# Altium integrated library National Semiconductor MiscPower.IntLib: 1552 symbols (part 35 of 43)
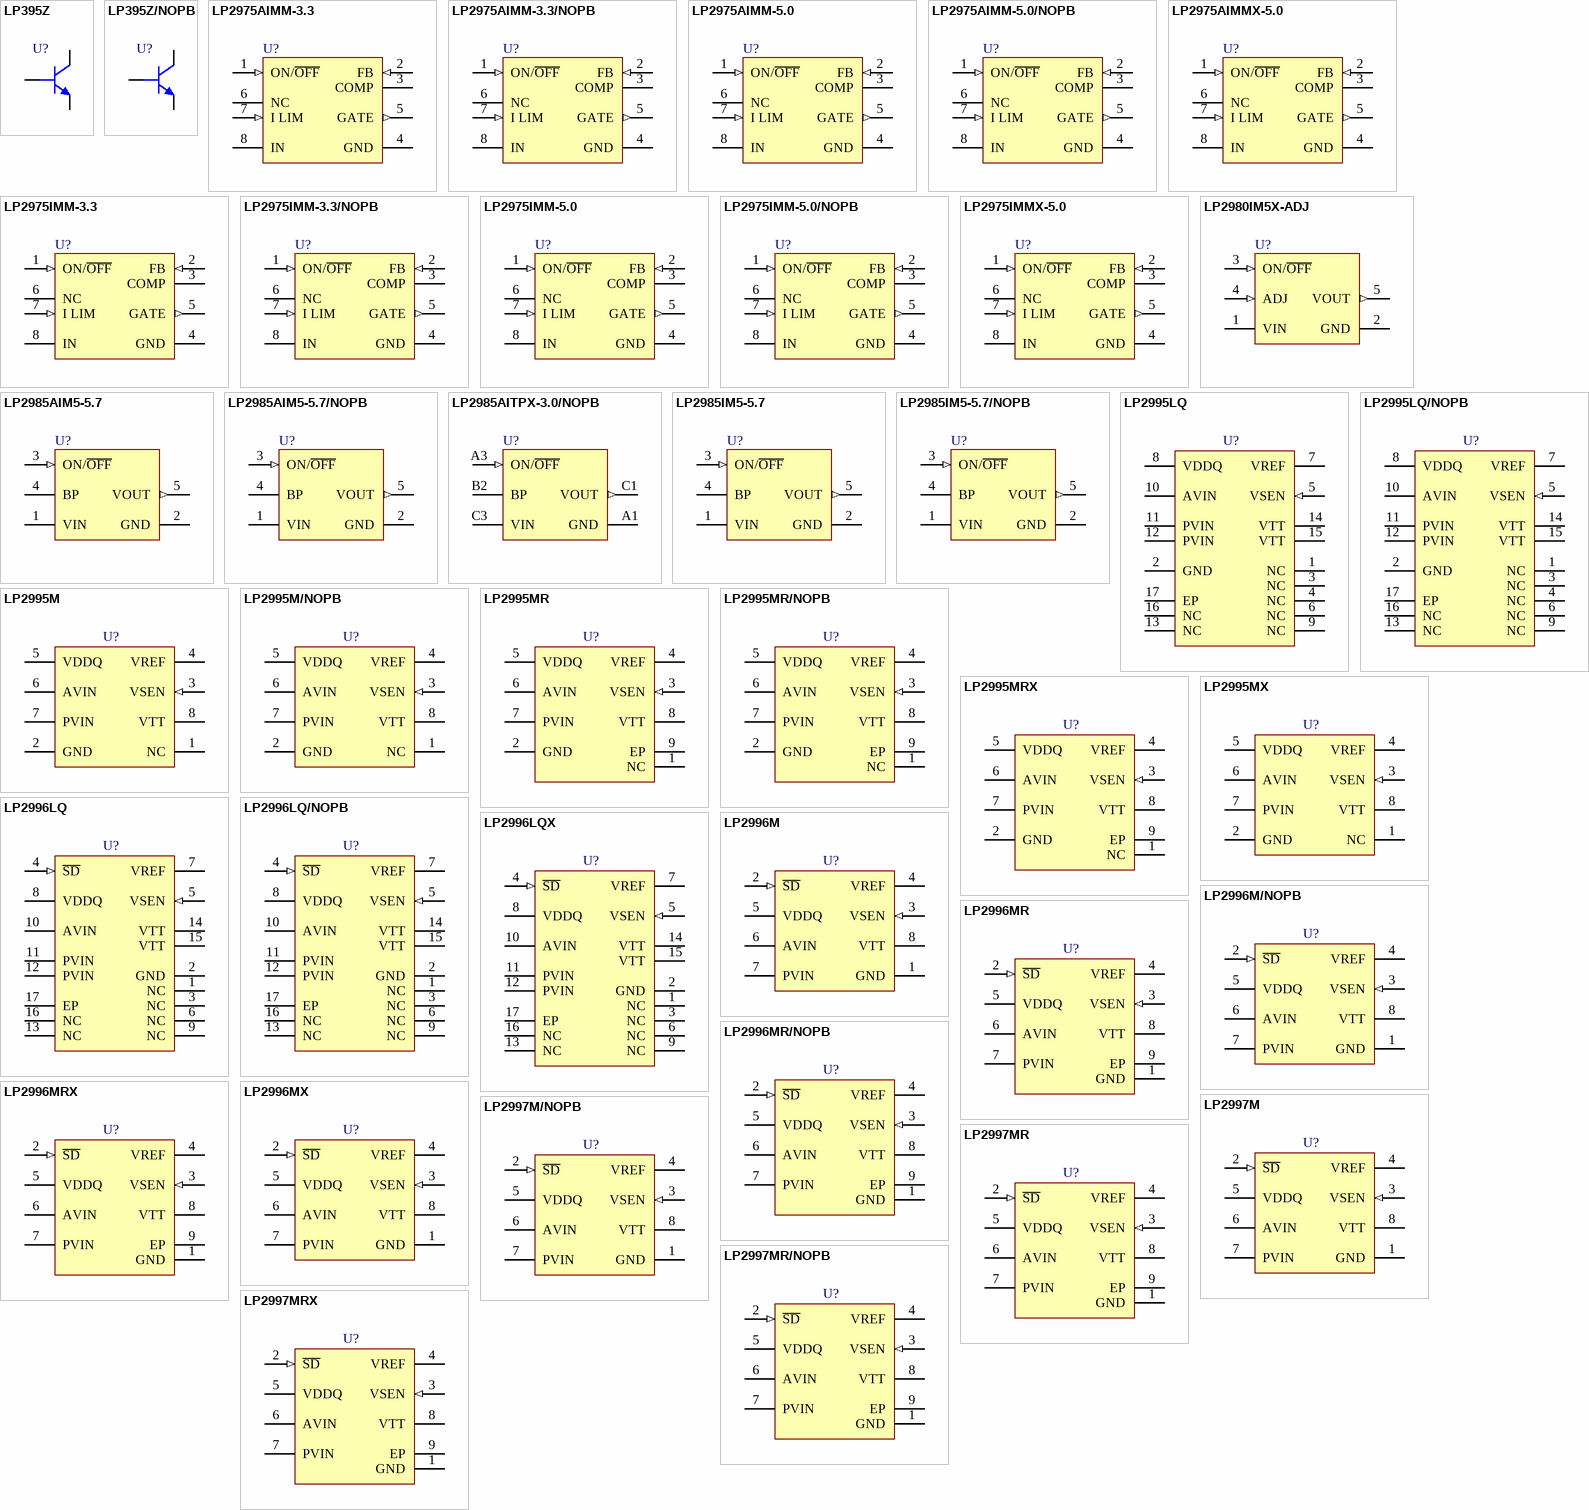
[diagram p91: symbols LP395Z to LP2997MRX]

## LP2996M/NOPB
designator U?
DDR Termination Regulator, 8-pin Narrow SOIC, Pb-Free; PartNumber: LP2996M/NOPB; Manufacturer: National Semiconductor; PackageTopMarking: NSZXTT*2996M; PowerWise: N; CompType: MiscPower; High-Reliability: Y; DatasheetVersion: Apr-2009; PackageVersion: revM, May-2009; PackageReference: M08A; PackageDescription: SOIC Narrow, 4.9 x 3.9 x 1.45mm, 8 Lead, 1.27mm Pitch; RoHS: Y; PinCount: 8; Code_JEDEC: MS-012-AA; Code_IPC: SOIC127P600-8; ComponentLink1Description: Manufacturer URL; ComponentLink1URL: http://www.national.com/; ComponentLink2Description: LP2996 Datasheet; ComponentLink2URL: http://www.national.com/ds/LP/LP2996.pdf; ComponentLink3Description: LP2996 Web Page; ComponentLink3URL: http://www.national.com/pf/LP/LP2996.html; ComponentLink4Description: M08A Package Page; ComponentLink4URL: http://www.national.com/packaging/folders/m08a.html
footprint M08A_N (SOIC, 8-Leads, Body 4.9x3.9mm, Pitch 1.27mm, IPC Medium Density)
footprint M08A_L (SOIC, 8-Leads, Body 4.9x3.9mm, Pitch 1.27mm, IPC High Density)
footprint M08A_M (SOIC, 8-Leads, Body 4.9x3.9mm, Pitch 1.27mm, IPC Low Density)
pins: 1 GND (power), 2 ~{SD} (in), 3 VSEN (in), 4 VREF, 5 VDDQ (power), 6 AVIN (power), 7 PVIN (power), 8 VTT (power)

## LP2996MR
designator U?
DDR Termination Regulator, 8-pin PSOP; PartNumber: LP2996MR; Manufacturer: National Semiconductor; PackageTopMarking: NSXYTT*LP2996; PowerWise: N; CompType: MiscPower; High-Reliability: Y; DatasheetVersion: Apr-2009; PackageVersion: revD, Dec-2007; PackageReference: MRA08A; PackageDescription: Molded, PSOP .193 x .154 x .058in, 8 Lead, .050in Pitch; RoHS: N; PinCount: 8; Code_JEDEC: MS-012-AA; ComponentLink1Description: Manufacturer URL; ComponentLink1URL: http://www.national.com/; ComponentLink2Description: LP2996 Datasheet; ComponentLink2URL: http://www.national.com/ds/LP/LP2996.pdf; ComponentLink3Description: LP2996 Web Page; ComponentLink3URL: http://www.national.com/pf/LP/LP2996.html; ComponentLink4Description: MRA08A Package Page; ComponentLink4URL: http://www.national.com/packaging/folders/mra08a.html
footprint MRA08A_N (SOIC, 8-Leads, Body 4.9x3.9mm, Pitch 1.27mm, Thermal Pad, IPC Medium Density)
footprint MRA08A_L (SOIC, 8-Leads, Body 4.9x3.9mm, Pitch 1.27mm, Thermal Pad, IPC High Density)
footprint MRA08A_M (SOIC, 8-Leads, Body 4.9x3.9mm, Pitch 1.27mm, Thermal Pad, IPC Low Density)
pins: 1 GND (power), 2 ~{SD} (in), 3 VSEN (in), 4 VREF, 5 VDDQ (power), 6 AVIN (power), 7 PVIN (power), 8 VTT (power), 9 EP (power)

## LP2996MR/NOPB
designator U?
DDR Termination Regulator, 8-pin PSOP, Pb-Free; PartNumber: LP2996MR/NOPB; Manufacturer: National Semiconductor; PackageTopMarking: NSXYTT*LP2996; PowerWise: N; CompType: MiscPower; High-Reliability: Y; DatasheetVersion: Apr-2009; PackageVersion: revD, Dec-2007; PackageReference: MRA08A; PackageDescription: Molded, PSOP .193 x .154 x .058in, 8 Lead, .050in Pitch; RoHS: Y; PinCount: 8; Code_JEDEC: MS-012-AA; ComponentLink1Description: Manufacturer URL; ComponentLink1URL: http://www.national.com/; ComponentLink2Description: LP2996 Datasheet; ComponentLink2URL: http://www.national.com/ds/LP/LP2996.pdf; ComponentLink3Description: LP2996 Web Page; ComponentLink3URL: http://www.national.com/pf/LP/LP2996.html; ComponentLink4Description: MRA08A Package Page; ComponentLink4URL: http://www.national.com/packaging/folders/mra08a.html
footprint MRA08A_N (SOIC, 8-Leads, Body 4.9x3.9mm, Pitch 1.27mm, Thermal Pad, IPC Medium Density)
footprint MRA08A_L (SOIC, 8-Leads, Body 4.9x3.9mm, Pitch 1.27mm, Thermal Pad, IPC High Density)
footprint MRA08A_M (SOIC, 8-Leads, Body 4.9x3.9mm, Pitch 1.27mm, Thermal Pad, IPC Low Density)
pins: 1 GND (power), 2 ~{SD} (in), 3 VSEN (in), 4 VREF, 5 VDDQ (power), 6 AVIN (power), 7 PVIN (power), 8 VTT (power), 9 EP (power)

## LP2996MRX
designator U?
DDR Termination Regulator, 8-pin PSOP; PartNumber: LP2996MRX; Manufacturer: National Semiconductor; PackageTopMarking: NSXYTT*LP2996; PowerWise: N; CompType: MiscPower; High-Reliability: Y; DatasheetVersion: Apr-2009; PackageVersion: revD, Dec-2007; PackageReference: MRA08A; PackageDescription: Molded, PSOP .193 x .154 x .058in, 8 Lead, .050in Pitch; RoHS: N; PinCount: 8; Code_JEDEC: MS-012-AA; ComponentLink1Description: Manufacturer URL; ComponentLink1URL: http://www.national.com/; ComponentLink2Description: LP2996 Datasheet; ComponentLink2URL: http://www.national.com/ds/LP/LP2996.pdf; ComponentLink3Description: LP2996 Web Page; ComponentLink3URL: http://www.national.com/pf/LP/LP2996.html; ComponentLink4Description: MRA08A Package Page; ComponentLink4URL: http://www.national.com/packaging/folders/mra08a.html
footprint MRA08A_N (SOIC, 8-Leads, Body 4.9x3.9mm, Pitch 1.27mm, Thermal Pad, IPC Medium Density)
footprint MRA08A_L (SOIC, 8-Leads, Body 4.9x3.9mm, Pitch 1.27mm, Thermal Pad, IPC High Density)
footprint MRA08A_M (SOIC, 8-Leads, Body 4.9x3.9mm, Pitch 1.27mm, Thermal Pad, IPC Low Density)
pins: 1 GND (power), 2 ~{SD} (in), 3 VSEN (in), 4 VREF, 5 VDDQ (power), 6 AVIN (power), 7 PVIN (power), 8 VTT (power), 9 EP (power)

## LP2996MX
designator U?
DDR Termination Regulator, 8-pin Narrow SOIC; PartNumber: LP2996MX; Manufacturer: National Semiconductor; PackageTopMarking: NSZXTT*2996M; PowerWise: N; CompType: MiscPower; High-Reliability: Y; DatasheetVersion: Apr-2009; PackageVersion: revM, May-2009; PackageReference: M08A; PackageDescription: SOIC Narrow, 4.9 x 3.9 x 1.45mm, 8 Lead, 1.27mm Pitch; RoHS: N; PinCount: 8; Code_JEDEC: MS-012-AA; Code_IPC: SOIC127P600-8; ComponentLink1Description: Manufacturer URL; ComponentLink1URL: http://www.national.com/; ComponentLink2Description: LP2996 Datasheet; ComponentLink2URL: http://www.national.com/ds/LP/LP2996.pdf; ComponentLink3Description: LP2996 Web Page; ComponentLink3URL: http://www.national.com/pf/LP/LP2996.html; ComponentLink4Description: M08A Package Page; ComponentLink4URL: http://www.national.com/packaging/folders/m08a.html
footprint M08A_N (SOIC, 8-Leads, Body 4.9x3.9mm, Pitch 1.27mm, IPC Medium Density)
footprint M08A_L (SOIC, 8-Leads, Body 4.9x3.9mm, Pitch 1.27mm, IPC High Density)
footprint M08A_M (SOIC, 8-Leads, Body 4.9x3.9mm, Pitch 1.27mm, IPC Low Density)
pins: 1 GND (power), 2 ~{SD} (in), 3 VSEN (in), 4 VREF, 5 VDDQ (power), 6 AVIN (power), 7 PVIN (power), 8 VTT (power)

## LP2997M
designator U?
DDR-II Termination Regulator, 8-pin Narrow SOIC; PartNumber: LP2997M; Manufacturer: National Semiconductor; PackageTopMarking: NSZXTT*L2997*M; PowerWise: N; CompType: MiscPower; High-Reliability: Y; DatasheetVersion: Jun-2006; PackageVersion: revM, May-2009; PackageReference: M08A; PackageDescription: SOIC Narrow, 4.9 x 3.9 x 1.45mm, 8 Lead, 1.27mm Pitch; RoHS: N; PinCount: 8; Code_JEDEC: MS-012-AA; Code_IPC: SOIC127P600-8; ComponentLink1Description: Manufacturer URL; ComponentLink1URL: http://www.national.com/; ComponentLink2Description: LP2997 Datasheet; ComponentLink2URL: http://www.national.com/ds/LP/LP2997.pdf; ComponentLink3Description: LP2997 Web Page; ComponentLink3URL: http://www.national.com/pf/LP/LP2997.html; ComponentLink4Description: M08A Package Page; ComponentLink4URL: http://www.national.com/packaging/folders/m08a.html
footprint M08A_N (SOIC, 8-Leads, Body 4.9x3.9mm, Pitch 1.27mm, IPC Medium Density)
footprint M08A_L (SOIC, 8-Leads, Body 4.9x3.9mm, Pitch 1.27mm, IPC High Density)
footprint M08A_M (SOIC, 8-Leads, Body 4.9x3.9mm, Pitch 1.27mm, IPC Low Density)
pins: 1 GND (power), 2 ~{SD} (in), 3 VSEN (in), 4 VREF, 5 VDDQ (power), 6 AVIN (power), 7 PVIN (power), 8 VTT (power)

## LP2997M/NOPB
designator U?
DDR-II Termination Regulator, 8-pin Narrow SOIC, Pb-Free; PartNumber: LP2997M/NOPB; Manufacturer: National Semiconductor; PackageTopMarking: NSZXTT*L2997*M; PowerWise: N; CompType: MiscPower; High-Reliability: Y; DatasheetVersion: Jun-2006; PackageVersion: revM, May-2009; PackageReference: M08A; PackageDescription: SOIC Narrow, 4.9 x 3.9 x 1.45mm, 8 Lead, 1.27mm Pitch; RoHS: Y; PinCount: 8; Code_JEDEC: MS-012-AA; Code_IPC: SOIC127P600-8; ComponentLink1Description: Manufacturer URL; ComponentLink1URL: http://www.national.com/; ComponentLink2Description: LP2997 Datasheet; ComponentLink2URL: http://www.national.com/ds/LP/LP2997.pdf; ComponentLink3Description: LP2997 Web Page; ComponentLink3URL: http://www.national.com/pf/LP/LP2997.html; ComponentLink4Description: M08A Package Page; ComponentLink4URL: http://www.national.com/packaging/folders/m08a.html
footprint M08A_N (SOIC, 8-Leads, Body 4.9x3.9mm, Pitch 1.27mm, IPC Medium Density)
footprint M08A_L (SOIC, 8-Leads, Body 4.9x3.9mm, Pitch 1.27mm, IPC High Density)
footprint M08A_M (SOIC, 8-Leads, Body 4.9x3.9mm, Pitch 1.27mm, IPC Low Density)
pins: 1 GND (power), 2 ~{SD} (in), 3 VSEN (in), 4 VREF, 5 VDDQ (power), 6 AVIN (power), 7 PVIN (power), 8 VTT (power)

## LP2997MR
designator U?
DDR-II Termination Regulator, 8-pin PSOP; PartNumber: LP2997MR; Manufacturer: National Semiconductor; PackageTopMarking: NSXYTT*L2997*MR; PowerWise: N; CompType: MiscPower; High-Reliability: Y; DatasheetVersion: Jun-2006; PackageVersion: revD, Dec-2007; PackageReference: MRA08A; PackageDescription: Molded, PSOP .193 x .154 x .058in, 8 Lead, .050in Pitch; RoHS: N; PinCount: 8; Code_JEDEC: MS-012-AA; ComponentLink1Description: Manufacturer URL; ComponentLink1URL: http://www.national.com/; ComponentLink2Description: LP2997 Datasheet; ComponentLink2URL: http://www.national.com/ds/LP/LP2997.pdf; ComponentLink3Description: LP2997 Web Page; ComponentLink3URL: http://www.national.com/pf/LP/LP2997.html; ComponentLink4Description: MRA08A Package Page; ComponentLink4URL: http://www.national.com/packaging/folders/mra08a.html
footprint MRA08A_N (SOIC, 8-Leads, Body 4.9x3.9mm, Pitch 1.27mm, Thermal Pad, IPC Medium Density)
footprint MRA08A_L (SOIC, 8-Leads, Body 4.9x3.9mm, Pitch 1.27mm, Thermal Pad, IPC High Density)
footprint MRA08A_M (SOIC, 8-Leads, Body 4.9x3.9mm, Pitch 1.27mm, Thermal Pad, IPC Low Density)
pins: 1 GND (power), 2 ~{SD} (in), 3 VSEN (in), 4 VREF, 5 VDDQ (power), 6 AVIN (power), 7 PVIN (power), 8 VTT (power), 9 EP (power)

## LP2997MR/NOPB
designator U?
DDR-II Termination Regulator, 8-pin PSOP, Pb-Free; PartNumber: LP2997MR/NOPB; Manufacturer: National Semiconductor; PackageTopMarking: NSXYTT*L2997*MR; PowerWise: N; CompType: MiscPower; High-Reliability: Y; DatasheetVersion: Jun-2006; PackageVersion: revD, Dec-2007; PackageReference: MRA08A; PackageDescription: Molded, PSOP .193 x .154 x .058in, 8 Lead, .050in Pitch; RoHS: Y; PinCount: 8; Code_JEDEC: MS-012-AA; ComponentLink1Description: Manufacturer URL; ComponentLink1URL: http://www.national.com/; ComponentLink2Description: LP2997 Datasheet; ComponentLink2URL: http://www.national.com/ds/LP/LP2997.pdf; ComponentLink3Description: LP2997 Web Page; ComponentLink3URL: http://www.national.com/pf/LP/LP2997.html; ComponentLink4Description: MRA08A Package Page; ComponentLink4URL: http://www.national.com/packaging/folders/mra08a.html
footprint MRA08A_N (SOIC, 8-Leads, Body 4.9x3.9mm, Pitch 1.27mm, Thermal Pad, IPC Medium Density)
footprint MRA08A_L (SOIC, 8-Leads, Body 4.9x3.9mm, Pitch 1.27mm, Thermal Pad, IPC High Density)
footprint MRA08A_M (SOIC, 8-Leads, Body 4.9x3.9mm, Pitch 1.27mm, Thermal Pad, IPC Low Density)
pins: 1 GND (power), 2 ~{SD} (in), 3 VSEN (in), 4 VREF, 5 VDDQ (power), 6 AVIN (power), 7 PVIN (power), 8 VTT (power), 9 EP (power)

## LP2997MRX
designator U?
DDR-II Termination Regulator, 8-pin PSOP; PartNumber: LP2997MRX; Manufacturer: National Semiconductor; PackageTopMarking: NSXYTT*L2997*MR; PowerWise: N; CompType: MiscPower; High-Reliability: Y; DatasheetVersion: Jun-2006; PackageVersion: revD, Dec-2007; PackageReference: MRA08A; PackageDescription: Molded, PSOP .193 x .154 x .058in, 8 Lead, .050in Pitch; RoHS: N; PinCount: 8; Code_JEDEC: MS-012-AA; ComponentLink1Description: Manufacturer URL; ComponentLink1URL: http://www.national.com/; ComponentLink2Description: LP2997 Datasheet; ComponentLink2URL: http://www.national.com/ds/LP/LP2997.pdf; ComponentLink3Description: LP2997 Web Page; ComponentLink3URL: http://www.national.com/pf/LP/LP2997.html; ComponentLink4Description: MRA08A Package Page; ComponentLink4URL: http://www.national.com/packaging/folders/mra08a.html
footprint MRA08A_N (SOIC, 8-Leads, Body 4.9x3.9mm, Pitch 1.27mm, Thermal Pad, IPC Medium Density)
footprint MRA08A_L (SOIC, 8-Leads, Body 4.9x3.9mm, Pitch 1.27mm, Thermal Pad, IPC High Density)
footprint MRA08A_M (SOIC, 8-Leads, Body 4.9x3.9mm, Pitch 1.27mm, Thermal Pad, IPC Low Density)
pins: 1 GND (power), 2 ~{SD} (in), 3 VSEN (in), 4 VREF, 5 VDDQ (power), 6 AVIN (power), 7 PVIN (power), 8 VTT (power), 9 EP (power)

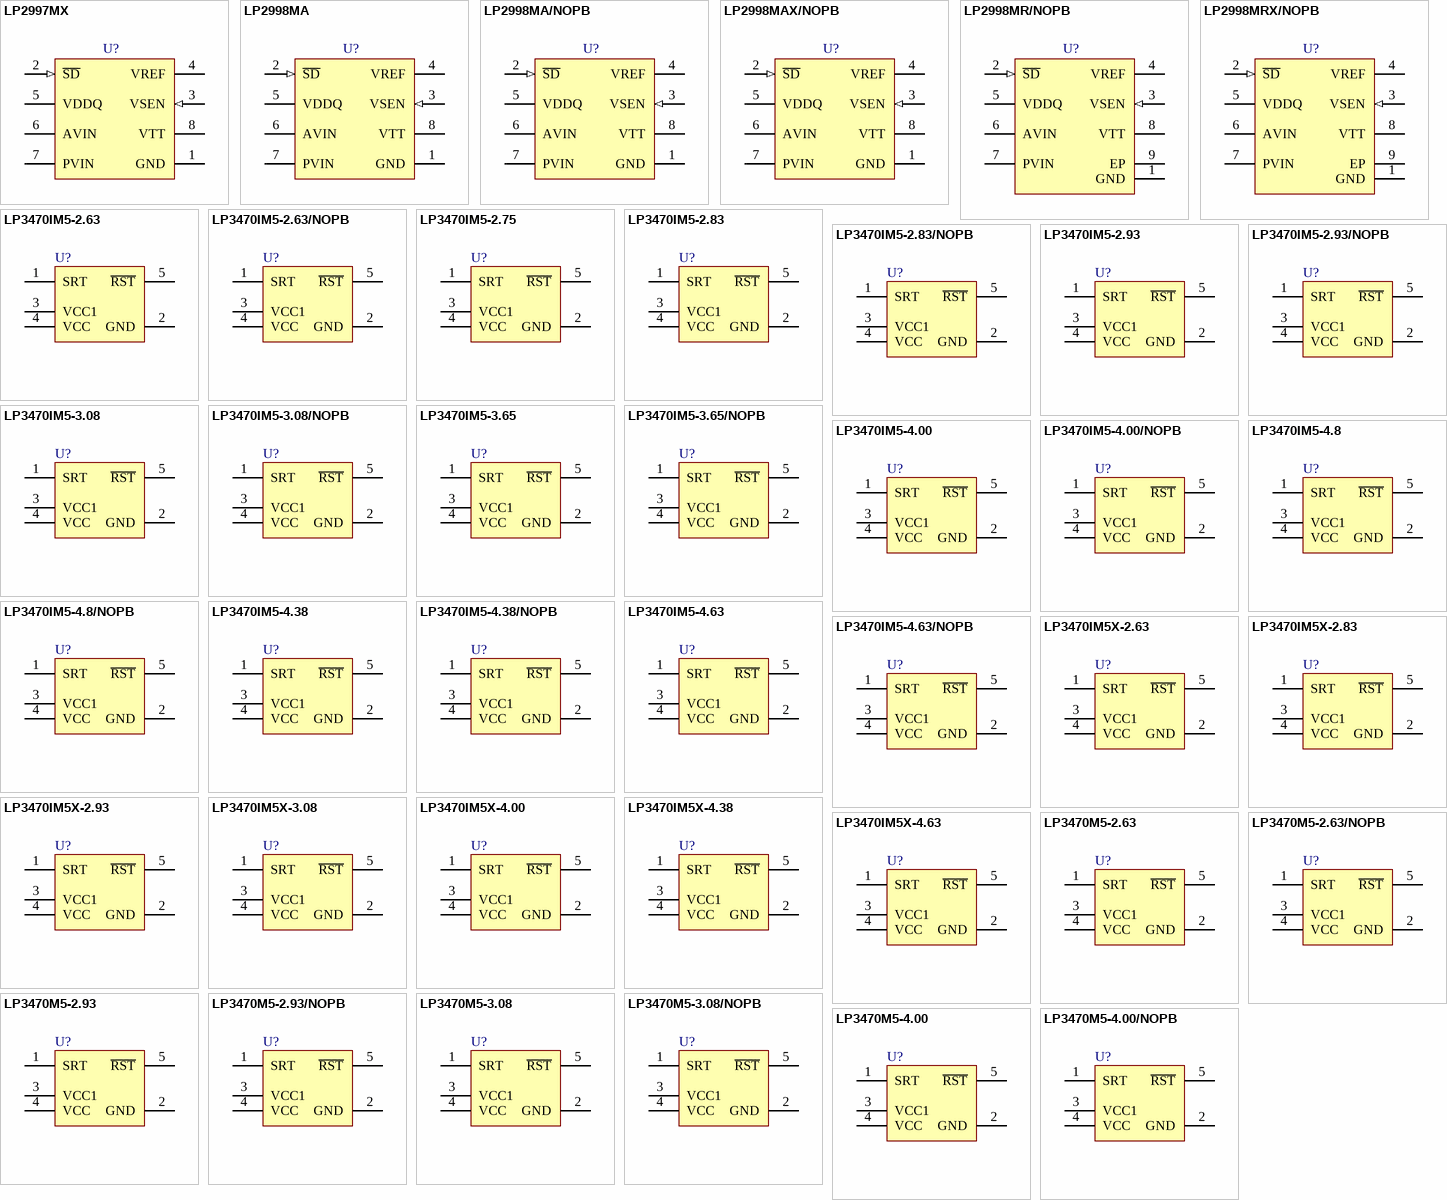
[diagram p39: symbols LP2997MX to LP3470M5-4.00/NOPB]

## LP2997MX
designator U?
DDR-II Termination Regulator, 8-pin Narrow SOIC; PartNumber: LP2997MX; Manufacturer: National Semiconductor; PackageTopMarking: NSZXTT*L2997*M; PowerWise: N; CompType: MiscPower; High-Reliability: Y; DatasheetVersion: Jun-2006; PackageVersion: revM, May-2009; PackageReference: M08A; PackageDescription: SOIC Narrow, 4.9 x 3.9 x 1.45mm, 8 Lead, 1.27mm Pitch; RoHS: N; PinCount: 8; Code_JEDEC: MS-012-AA; Code_IPC: SOIC127P600-8; ComponentLink1Description: Manufacturer URL; ComponentLink1URL: http://www.national.com/; ComponentLink2Description: LP2997 Datasheet; ComponentLink2URL: http://www.national.com/ds/LP/LP2997.pdf; ComponentLink3Description: LP2997 Web Page; ComponentLink3URL: http://www.national.com/pf/LP/LP2997.html; ComponentLink4Description: M08A Package Page; ComponentLink4URL: http://www.national.com/packaging/folders/m08a.html
footprint M08A_N (SOIC, 8-Leads, Body 4.9x3.9mm, Pitch 1.27mm, IPC Medium Density)
footprint M08A_L (SOIC, 8-Leads, Body 4.9x3.9mm, Pitch 1.27mm, IPC High Density)
footprint M08A_M (SOIC, 8-Leads, Body 4.9x3.9mm, Pitch 1.27mm, IPC Low Density)
pins: 1 GND (power), 2 ~{SD} (in), 3 VSEN (in), 4 VREF, 5 VDDQ (power), 6 AVIN (power), 7 PVIN (power), 8 VTT (power)

## LP2998MA
designator U?
DDR-II and DDR-I Termination Regulator, 8-pin Narrow SOIC; PartNumber: LP2998MA; Manufacturer: National Semiconductor; PackageTopMarking: NSZXTT*LP2998*MA; PowerWise: N; CompType: MiscPower; High-Reliability: Y; DatasheetVersion: Dec-2009; PackageVersion: revM, May-2009; PackageReference: M08A; PackageDescription: SOIC Narrow, 4.9 x 3.9 x 1.45mm, 8 Lead, 1.27mm Pitch; RoHS: Y; PinCount: 8; Code_JEDEC: MS-012-AA; Code_IPC: SOIC127P600-8; ComponentLink1Description: Manufacturer URL; ComponentLink1URL: http://www.national.com/; ComponentLink2Description: LP2998 Datasheet; ComponentLink2URL: http://www.national.com/ds/LP/LP2998.pdf; ComponentLink3Description: LP2998 Web Page; ComponentLink3URL: http://www.national.com/pf/LP/LP2998.html; ComponentLink4Description: M08A Package Page; ComponentLink4URL: http://www.national.com/packaging/folders/m08a.html
footprint M08A_N (SOIC, 8-Leads, Body 4.9x3.9mm, Pitch 1.27mm, IPC Medium Density)
footprint M08A_L (SOIC, 8-Leads, Body 4.9x3.9mm, Pitch 1.27mm, IPC High Density)
footprint M08A_M (SOIC, 8-Leads, Body 4.9x3.9mm, Pitch 1.27mm, IPC Low Density)
pins: 1 GND (power), 2 ~{SD} (in), 3 VSEN (in), 4 VREF, 5 VDDQ (power), 6 AVIN (power), 7 PVIN (power), 8 VTT (power)

## LP2998MA/NOPB
designator U?
DDR-I and DDR-II Termination Regulator, 8-pin Narrow SOIC, Pb-Free; PartNumber: LP2998MA/NOPB; Manufacturer: National Semiconductor; PackageTopMarking: NSZXTT*LP2998*MA; PowerWise: N; CompType: MiscPower; High-Reliability: Y; DatasheetVersion: Dec-2009; PackageVersion: revM, May-2009; PackageReference: M08A; PackageDescription: SOIC Narrow, 4.9 x 3.9 x 1.45mm, 8 Lead, 1.27mm Pitch; RoHS: Y; PinCount: 8; Code_JEDEC: MS-012-AA; Code_IPC: SOIC127P600-8; ComponentLink1Description: Manufacturer URL; ComponentLink1URL: http://www.national.com/; ComponentLink2Description: LP2998 Datasheet; ComponentLink2URL: http://www.national.com/ds/LP/LP2998.pdf; ComponentLink3Description: LP2998 Web Page; ComponentLink3URL: http://www.national.com/pf/LP/LP2998.html; ComponentLink4Description: M08A Package Page; ComponentLink4URL: http://www.national.com/packaging/folders/m08a.html
footprint M08A_N (SOIC, 8-Leads, Body 4.9x3.9mm, Pitch 1.27mm, IPC Medium Density)
footprint M08A_L (SOIC, 8-Leads, Body 4.9x3.9mm, Pitch 1.27mm, IPC High Density)
footprint M08A_M (SOIC, 8-Leads, Body 4.9x3.9mm, Pitch 1.27mm, IPC Low Density)
pins: 1 GND (power), 2 ~{SD} (in), 3 VSEN (in), 4 VREF, 5 VDDQ (power), 6 AVIN (power), 7 PVIN (power), 8 VTT (power)

## LP2998MAX/NOPB
designator U?
DDR-I and DDR-II Termination Regulator, 8-pin Narrow SOIC, Pb-Free; PartNumber: LP2998MAX/NOPB; Manufacturer: National Semiconductor; PackageTopMarking: NSZXTT*LP2998*MA; PowerWise: N; CompType: MiscPower; High-Reliability: Y; DatasheetVersion: Dec-2009; PackageVersion: revM, May-2009; PackageReference: M08A; PackageDescription: SOIC Narrow, 4.9 x 3.9 x 1.45mm, 8 Lead, 1.27mm Pitch; RoHS: Y; PinCount: 8; Code_JEDEC: MS-012-AA; Code_IPC: SOIC127P600-8; ComponentLink1Description: Manufacturer URL; ComponentLink1URL: http://www.national.com/; ComponentLink2Description: LP2998 Datasheet; ComponentLink2URL: http://www.national.com/ds/LP/LP2998.pdf; ComponentLink3Description: LP2998 Web Page; ComponentLink3URL: http://www.national.com/pf/LP/LP2998.html; ComponentLink4Description: M08A Package Page; ComponentLink4URL: http://www.national.com/packaging/folders/m08a.html
footprint M08A_N (SOIC, 8-Leads, Body 4.9x3.9mm, Pitch 1.27mm, IPC Medium Density)
footprint M08A_L (SOIC, 8-Leads, Body 4.9x3.9mm, Pitch 1.27mm, IPC High Density)
footprint M08A_M (SOIC, 8-Leads, Body 4.9x3.9mm, Pitch 1.27mm, IPC Low Density)
pins: 1 GND (power), 2 ~{SD} (in), 3 VSEN (in), 4 VREF, 5 VDDQ (power), 6 AVIN (power), 7 PVIN (power), 8 VTT (power)

## LP2998MR/NOPB
designator U?
DDR-I and DDR-II Termination Regulator, 8-pin PSOP, Pb-Free; PartNumber: LP2998MR/NOPB; Manufacturer: National Semiconductor; PackageTopMarking: NSXYTT*LP2998*MR; PowerWise: N; CompType: MiscPower; High-Reliability: Y; DatasheetVersion: Dec-2009; PackageVersion: revD, Dec-2007; PackageReference: MRA08A; PackageDescription: Molded, PSOP .193 x .154 x .058in, 8 Lead, .050in Pitch; RoHS: Y; PinCount: 8; Code_JEDEC: MS-012-AA; ComponentLink1Description: Manufacturer URL; ComponentLink1URL: http://www.national.com/; ComponentLink2Description: LP2998 Datasheet; ComponentLink2URL: http://www.national.com/ds/LP/LP2998.pdf; ComponentLink3Description: LP2998 Web Page; ComponentLink3URL: http://www.national.com/pf/LP/LP2998.html; ComponentLink4Description: MRA08A Package Page; ComponentLink4URL: http://www.national.com/packaging/folders/mra08a.html
footprint MRA08A_N (SOIC, 8-Leads, Body 4.9x3.9mm, Pitch 1.27mm, Thermal Pad, IPC Medium Density)
footprint MRA08A_L (SOIC, 8-Leads, Body 4.9x3.9mm, Pitch 1.27mm, Thermal Pad, IPC High Density)
footprint MRA08A_M (SOIC, 8-Leads, Body 4.9x3.9mm, Pitch 1.27mm, Thermal Pad, IPC Low Density)
pins: 1 GND (power), 2 ~{SD} (in), 3 VSEN (in), 4 VREF, 5 VDDQ (power), 6 AVIN (power), 7 PVIN (power), 8 VTT (power), 9 EP (power)

## LP2998MRX/NOPB
designator U?
DDR-I and DDR-II Termination Regulator, 8-pin PSOP, Pb-Free; PartNumber: LP2998MRX/NOPB; Manufacturer: National Semiconductor; PackageTopMarking: NSXYTT*LP2998*MR; PowerWise: N; CompType: MiscPower; High-Reliability: Y; DatasheetVersion: Dec-2009; PackageVersion: revD, Dec-2007; PackageReference: MRA08A; PackageDescription: Molded, PSOP .193 x .154 x .058in, 8 Lead, .050in Pitch; RoHS: Y; PinCount: 8; Code_JEDEC: MS-012-AA; ComponentLink1Description: Manufacturer URL; ComponentLink1URL: http://www.national.com/; ComponentLink2Description: LP2998 Datasheet; ComponentLink2URL: http://www.national.com/ds/LP/LP2998.pdf; ComponentLink3Description: LP2998 Web Page; ComponentLink3URL: http://www.national.com/pf/LP/LP2998.html; ComponentLink4Description: MRA08A Package Page; ComponentLink4URL: http://www.national.com/packaging/folders/mra08a.html
footprint MRA08A_N (SOIC, 8-Leads, Body 4.9x3.9mm, Pitch 1.27mm, Thermal Pad, IPC Medium Density)
footprint MRA08A_L (SOIC, 8-Leads, Body 4.9x3.9mm, Pitch 1.27mm, Thermal Pad, IPC High Density)
footprint MRA08A_M (SOIC, 8-Leads, Body 4.9x3.9mm, Pitch 1.27mm, Thermal Pad, IPC Low Density)
pins: 1 GND (power), 2 ~{SD} (in), 3 VSEN (in), 4 VREF, 5 VDDQ (power), 6 AVIN (power), 7 PVIN (power), 8 VTT (power), 9 EP (power)

## LP3470IM5-2.63
designator U?
Tiny Power On Reset Circuit, 5-pin SOT-23; PartNumber: LP3470IM5-2.63; Manufacturer: National Semiconductor; PackageTopMarking: D25C*XTT; PowerWise: N; CompType: MiscPower; High-Reliability: Y; DatasheetVersion: Sep-2009; PackageVersion: revD, Aug-2008; PackageReference: MF05A; PackageDescription: Molded SOT-23, .115 x .063 x .040 in Body, 5 Lead, .0375 in Pitch; RoHS: N; PinCount: 5; ComponentLink1Description: Manufacturer URL; ComponentLink1URL: http://www.national.com/; ComponentLink2Description: LP3470 Datasheet; ComponentLink2URL: http://www.national.com/ds/LP/LP3470.pdf; ComponentLink3Description: LP3470 Web Page; ComponentLink3URL: http://www.national.com/pf/LP/LP3470.html; ComponentLink4Description: MF05A Package Page; ComponentLink4URL: http://www.national.com/packaging/folders/mf05a.html
footprint MF05A_N (SOT23, 5-Leads, Body 2.9x1.6mm, Pitch 0.95mm, Lead Span 2.8mm, IPC Medium Density)
footprint MF05A_L (SOT23, 5-Leads, Body 2.9x1.6mm, Pitch 0.95mm, Lead Span 2.8mm, IPC High Density)
footprint MF05A_M (SOT23, 5-Leads, Body 2.9x1.6mm, Pitch 0.95mm, Lead Span 2.8mm, IPC Low Density)
pins: 1 SRT, 2 GND (power), 3 VCC1 (power), 4 VCC (power), 5 ~{RST} (oc)

## LP3470IM5-2.63/NOPB
designator U?
Tiny Power On Reset Circuit, 5-pin SOT-23, Pb-Free; PartNumber: LP3470IM5-2.63/NOPB; Manufacturer: National Semiconductor; PackageTopMarking: D25C*XTT; PowerWise: N; CompType: MiscPower; High-Reliability: Y; DatasheetVersion: Sep-2009; PackageVersion: revD, Aug-2008; PackageReference: MF05A; PackageDescription: Molded SOT-23, .115 x .063 x .040 in Body, 5 Lead, .0375 in Pitch; RoHS: Y; PinCount: 5; ComponentLink1Description: Manufacturer URL; ComponentLink1URL: http://www.national.com/; ComponentLink2Description: LP3470 Datasheet; ComponentLink2URL: http://www.national.com/ds/LP/LP3470.pdf; ComponentLink3Description: LP3470 Web Page; ComponentLink3URL: http://www.national.com/pf/LP/LP3470.html; ComponentLink4Description: MF05A Package Page; ComponentLink4URL: http://www.national.com/packaging/folders/mf05a.html
footprint MF05A_N (SOT23, 5-Leads, Body 2.9x1.6mm, Pitch 0.95mm, Lead Span 2.8mm, IPC Medium Density)
footprint MF05A_L (SOT23, 5-Leads, Body 2.9x1.6mm, Pitch 0.95mm, Lead Span 2.8mm, IPC High Density)
footprint MF05A_M (SOT23, 5-Leads, Body 2.9x1.6mm, Pitch 0.95mm, Lead Span 2.8mm, IPC Low Density)
pins: 1 SRT, 2 GND (power), 3 VCC1 (power), 4 VCC (power), 5 ~{RST} (oc)

## LP3470IM5-2.75
designator U?
Tiny Power On Reset Circuit, 5-pin SOT-23; PartNumber: LP3470IM5-2.75; Manufacturer: National Semiconductor; PackageTopMarking: D38C*XTT; PowerWise: N; CompType: MiscPower; High-Reliability: Y; DatasheetVersion: Sep-2009; PackageVersion: revD, Aug-2008; PackageReference: MF05A; PackageDescription: Molded SOT-23, .115 x .063 x .040 in Body, 5 Lead, .0375 in Pitch; RoHS: N; PinCount: 5; ComponentLink1Description: Manufacturer URL; ComponentLink1URL: http://www.national.com/; ComponentLink2Description: LP3470 Datasheet; ComponentLink2URL: http://www.national.com/ds/LP/LP3470.pdf; ComponentLink3Description: LP3470 Web Page; ComponentLink3URL: http://www.national.com/pf/LP/LP3470.html; ComponentLink4Description: MF05A Package Page; ComponentLink4URL: http://www.national.com/packaging/folders/mf05a.html
footprint MF05A_N (SOT23, 5-Leads, Body 2.9x1.6mm, Pitch 0.95mm, Lead Span 2.8mm, IPC Medium Density)
footprint MF05A_L (SOT23, 5-Leads, Body 2.9x1.6mm, Pitch 0.95mm, Lead Span 2.8mm, IPC High Density)
footprint MF05A_M (SOT23, 5-Leads, Body 2.9x1.6mm, Pitch 0.95mm, Lead Span 2.8mm, IPC Low Density)
pins: 1 SRT, 2 GND (power), 3 VCC1 (power), 4 VCC (power), 5 ~{RST} (oc)

## LP3470IM5-2.83
designator U?
Tiny Power On Reset Circuit, 5-pin SOT-23; PartNumber: LP3470IM5-2.83; Manufacturer: National Semiconductor; PackageTopMarking: D39C*XTT; PowerWise: N; CompType: MiscPower; High-Reliability: Y; DatasheetVersion: Sep-2009; PackageVersion: revD, Aug-2008; PackageReference: MF05A; PackageDescription: Molded SOT-23, .115 x .063 x .040 in Body, 5 Lead, .0375 in Pitch; RoHS: N; PinCount: 5; ComponentLink1Description: Manufacturer URL; ComponentLink1URL: http://www.national.com/; ComponentLink2Description: LP3470 Datasheet; ComponentLink2URL: http://www.national.com/ds/LP/LP3470.pdf; ComponentLink3Description: LP3470 Web Page; ComponentLink3URL: http://www.national.com/pf/LP/LP3470.html; ComponentLink4Description: MF05A Package Page; ComponentLink4URL: http://www.national.com/packaging/folders/mf05a.html
footprint MF05A_N (SOT23, 5-Leads, Body 2.9x1.6mm, Pitch 0.95mm, Lead Span 2.8mm, IPC Medium Density)
footprint MF05A_L (SOT23, 5-Leads, Body 2.9x1.6mm, Pitch 0.95mm, Lead Span 2.8mm, IPC High Density)
footprint MF05A_M (SOT23, 5-Leads, Body 2.9x1.6mm, Pitch 0.95mm, Lead Span 2.8mm, IPC Low Density)
pins: 1 SRT, 2 GND (power), 3 VCC1 (power), 4 VCC (power), 5 ~{RST} (oc)

## LP3470IM5-2.83/NOPB
designator U?
Tiny Power On Reset Circuit, 5-pin SOT-23, Pb-Free; PartNumber: LP3470IM5-2.83/NOPB; Manufacturer: National Semiconductor; PackageTopMarking: D39C*XTT; PowerWise: N; CompType: MiscPower; High-Reliability: Y; DatasheetVersion: Sep-2009; PackageVersion: revD, Aug-2008; PackageReference: MF05A; PackageDescription: Molded SOT-23, .115 x .063 x .040 in Body, 5 Lead, .0375 in Pitch; RoHS: Y; PinCount: 5; ComponentLink1Description: Manufacturer URL; ComponentLink1URL: http://www.national.com/; ComponentLink2Description: LP3470 Datasheet; ComponentLink2URL: http://www.national.com/ds/LP/LP3470.pdf; ComponentLink3Description: LP3470 Web Page; ComponentLink3URL: http://www.national.com/pf/LP/LP3470.html; ComponentLink4Description: MF05A Package Page; ComponentLink4URL: http://www.national.com/packaging/folders/mf05a.html
footprint MF05A_N (SOT23, 5-Leads, Body 2.9x1.6mm, Pitch 0.95mm, Lead Span 2.8mm, IPC Medium Density)
footprint MF05A_L (SOT23, 5-Leads, Body 2.9x1.6mm, Pitch 0.95mm, Lead Span 2.8mm, IPC High Density)
footprint MF05A_M (SOT23, 5-Leads, Body 2.9x1.6mm, Pitch 0.95mm, Lead Span 2.8mm, IPC Low Density)
pins: 1 SRT, 2 GND (power), 3 VCC1 (power), 4 VCC (power), 5 ~{RST} (oc)

## LP3470IM5-2.93
designator U?
Tiny Power On Reset Circuit, 5-pin SOT-23; PartNumber: LP3470IM5-2.93; Manufacturer: National Semiconductor; PackageTopMarking: D26C*XTT; PowerWise: N; CompType: MiscPower; High-Reliability: Y; DatasheetVersion: Sep-2009; PackageVersion: revD, Aug-2008; PackageReference: MF05A; PackageDescription: Molded SOT-23, .115 x .063 x .040 in Body, 5 Lead, .0375 in Pitch; RoHS: N; PinCount: 5; ComponentLink1Description: Manufacturer URL; ComponentLink1URL: http://www.national.com/; ComponentLink2Description: LP3470 Datasheet; ComponentLink2URL: http://www.national.com/ds/LP/LP3470.pdf; ComponentLink3Description: LP3470 Web Page; ComponentLink3URL: http://www.national.com/pf/LP/LP3470.html; ComponentLink4Description: MF05A Package Page; ComponentLink4URL: http://www.national.com/packaging/folders/mf05a.html
footprint MF05A_N (SOT23, 5-Leads, Body 2.9x1.6mm, Pitch 0.95mm, Lead Span 2.8mm, IPC Medium Density)
footprint MF05A_L (SOT23, 5-Leads, Body 2.9x1.6mm, Pitch 0.95mm, Lead Span 2.8mm, IPC High Density)
footprint MF05A_M (SOT23, 5-Leads, Body 2.9x1.6mm, Pitch 0.95mm, Lead Span 2.8mm, IPC Low Density)
pins: 1 SRT, 2 GND (power), 3 VCC1 (power), 4 VCC (power), 5 ~{RST} (oc)

## LP3470IM5-2.93/NOPB
designator U?
Tiny Power On Reset Circuit, 5-pin SOT-23, Pb-Free; PartNumber: LP3470IM5-2.93/NOPB; Manufacturer: National Semiconductor; PackageTopMarking: D26C*XTT; PowerWise: N; CompType: MiscPower; High-Reliability: Y; DatasheetVersion: Sep-2009; PackageVersion: revD, Aug-2008; PackageReference: MF05A; PackageDescription: Molded SOT-23, .115 x .063 x .040 in Body, 5 Lead, .0375 in Pitch; RoHS: Y; PinCount: 5; ComponentLink1Description: Manufacturer URL; ComponentLink1URL: http://www.national.com/; ComponentLink2Description: LP3470 Datasheet; ComponentLink2URL: http://www.national.com/ds/LP/LP3470.pdf; ComponentLink3Description: LP3470 Web Page; ComponentLink3URL: http://www.national.com/pf/LP/LP3470.html; ComponentLink4Description: MF05A Package Page; ComponentLink4URL: http://www.national.com/packaging/folders/mf05a.html
footprint MF05A_N (SOT23, 5-Leads, Body 2.9x1.6mm, Pitch 0.95mm, Lead Span 2.8mm, IPC Medium Density)
footprint MF05A_L (SOT23, 5-Leads, Body 2.9x1.6mm, Pitch 0.95mm, Lead Span 2.8mm, IPC High Density)
footprint MF05A_M (SOT23, 5-Leads, Body 2.9x1.6mm, Pitch 0.95mm, Lead Span 2.8mm, IPC Low Density)
pins: 1 SRT, 2 GND (power), 3 VCC1 (power), 4 VCC (power), 5 ~{RST} (oc)

## LP3470IM5-3.08
designator U?
Tiny Power On Reset Circuit, 5-pin SOT-23; PartNumber: LP3470IM5-3.08; Manufacturer: National Semiconductor; PackageTopMarking: D28C*XTT; PowerWise: N; CompType: MiscPower; High-Reliability: Y; DatasheetVersion: Sep-2009; PackageVersion: revD, Aug-2008; PackageReference: MF05A; PackageDescription: Molded SOT-23, .115 x .063 x .040 in Body, 5 Lead, .0375 in Pitch; RoHS: N; PinCount: 5; ComponentLink1Description: Manufacturer URL; ComponentLink1URL: http://www.national.com/; ComponentLink2Description: LP3470 Datasheet; ComponentLink2URL: http://www.national.com/ds/LP/LP3470.pdf; ComponentLink3Description: LP3470 Web Page; ComponentLink3URL: http://www.national.com/pf/LP/LP3470.html; ComponentLink4Description: MF05A Package Page; ComponentLink4URL: http://www.national.com/packaging/folders/mf05a.html
footprint MF05A_N (SOT23, 5-Leads, Body 2.9x1.6mm, Pitch 0.95mm, Lead Span 2.8mm, IPC Medium Density)
footprint MF05A_L (SOT23, 5-Leads, Body 2.9x1.6mm, Pitch 0.95mm, Lead Span 2.8mm, IPC High Density)
footprint MF05A_M (SOT23, 5-Leads, Body 2.9x1.6mm, Pitch 0.95mm, Lead Span 2.8mm, IPC Low Density)
pins: 1 SRT, 2 GND (power), 3 VCC1 (power), 4 VCC (power), 5 ~{RST} (oc)

## LP3470IM5-3.08/NOPB
designator U?
Tiny Power On Reset Circuit, 5-pin SOT-23, Pb-Free; PartNumber: LP3470IM5-3.08/NOPB; Manufacturer: National Semiconductor; PackageTopMarking: D28C*XTT; PowerWise: N; CompType: MiscPower; High-Reliability: Y; DatasheetVersion: Sep-2009; PackageVersion: revD, Aug-2008; PackageReference: MF05A; PackageDescription: Molded SOT-23, .115 x .063 x .040 in Body, 5 Lead, .0375 in Pitch; RoHS: Y; PinCount: 5; ComponentLink1Description: Manufacturer URL; ComponentLink1URL: http://www.national.com/; ComponentLink2Description: LP3470 Datasheet; ComponentLink2URL: http://www.national.com/ds/LP/LP3470.pdf; ComponentLink3Description: LP3470 Web Page; ComponentLink3URL: http://www.national.com/pf/LP/LP3470.html; ComponentLink4Description: MF05A Package Page; ComponentLink4URL: http://www.national.com/packaging/folders/mf05a.html
footprint MF05A_N (SOT23, 5-Leads, Body 2.9x1.6mm, Pitch 0.95mm, Lead Span 2.8mm, IPC Medium Density)
footprint MF05A_L (SOT23, 5-Leads, Body 2.9x1.6mm, Pitch 0.95mm, Lead Span 2.8mm, IPC High Density)
footprint MF05A_M (SOT23, 5-Leads, Body 2.9x1.6mm, Pitch 0.95mm, Lead Span 2.8mm, IPC Low Density)
pins: 1 SRT, 2 GND (power), 3 VCC1 (power), 4 VCC (power), 5 ~{RST} (oc)

## LP3470IM5-3.65
designator U?
Tiny Power On Reset Circuit, 5-pin SOT-23; PartNumber: LP3470IM5-3.65; Manufacturer: National Semiconductor; PackageTopMarking: D37C*XTT; PowerWise: N; CompType: MiscPower; High-Reliability: Y; DatasheetVersion: Sep-2009; PackageVersion: revD, Aug-2008; PackageReference: MF05A; PackageDescription: Molded SOT-23, .115 x .063 x .040 in Body, 5 Lead, .0375 in Pitch; RoHS: N; PinCount: 5; ComponentLink1Description: Manufacturer URL; ComponentLink1URL: http://www.national.com/; ComponentLink2Description: LP3470 Datasheet; ComponentLink2URL: http://www.national.com/ds/LP/LP3470.pdf; ComponentLink3Description: LP3470 Web Page; ComponentLink3URL: http://www.national.com/pf/LP/LP3470.html; ComponentLink4Description: MF05A Package Page; ComponentLink4URL: http://www.national.com/packaging/folders/mf05a.html
footprint MF05A_N (SOT23, 5-Leads, Body 2.9x1.6mm, Pitch 0.95mm, Lead Span 2.8mm, IPC Medium Density)
footprint MF05A_L (SOT23, 5-Leads, Body 2.9x1.6mm, Pitch 0.95mm, Lead Span 2.8mm, IPC High Density)
footprint MF05A_M (SOT23, 5-Leads, Body 2.9x1.6mm, Pitch 0.95mm, Lead Span 2.8mm, IPC Low Density)
pins: 1 SRT, 2 GND (power), 3 VCC1 (power), 4 VCC (power), 5 ~{RST} (oc)

## LP3470IM5-3.65/NOPB
designator U?
Tiny Power On Reset Circuit, 5-pin SOT-23, Pb-Free; PartNumber: LP3470IM5-3.65/NOPB; Manufacturer: National Semiconductor; PackageTopMarking: D37C*XTT; PowerWise: N; CompType: MiscPower; High-Reliability: Y; DatasheetVersion: Sep-2009; PackageVersion: revD, Aug-2008; PackageReference: MF05A; PackageDescription: Molded SOT-23, .115 x .063 x .040 in Body, 5 Lead, .0375 in Pitch; RoHS: Y; PinCount: 5; ComponentLink1Description: Manufacturer URL; ComponentLink1URL: http://www.national.com/; ComponentLink2Description: LP3470 Datasheet; ComponentLink2URL: http://www.national.com/ds/LP/LP3470.pdf; ComponentLink3Description: LP3470 Web Page; ComponentLink3URL: http://www.national.com/pf/LP/LP3470.html; ComponentLink4Description: MF05A Package Page; ComponentLink4URL: http://www.national.com/packaging/folders/mf05a.html
footprint MF05A_N (SOT23, 5-Leads, Body 2.9x1.6mm, Pitch 0.95mm, Lead Span 2.8mm, IPC Medium Density)
footprint MF05A_L (SOT23, 5-Leads, Body 2.9x1.6mm, Pitch 0.95mm, Lead Span 2.8mm, IPC High Density)
footprint MF05A_M (SOT23, 5-Leads, Body 2.9x1.6mm, Pitch 0.95mm, Lead Span 2.8mm, IPC Low Density)
pins: 1 SRT, 2 GND (power), 3 VCC1 (power), 4 VCC (power), 5 ~{RST} (oc)

## LP3470IM5-4.00
designator U?
Tiny Power On Reset Circuit, 5-pin SOT-23; PartNumber: LP3470IM5-4.00; Manufacturer: National Semiconductor; PackageTopMarking: D29C*XTT; PowerWise: N; CompType: MiscPower; High-Reliability: Y; DatasheetVersion: Sep-2009; PackageVersion: revD, Aug-2008; PackageReference: MF05A; PackageDescription: Molded SOT-23, .115 x .063 x .040 in Body, 5 Lead, .0375 in Pitch; RoHS: N; PinCount: 5; ComponentLink1Description: Manufacturer URL; ComponentLink1URL: http://www.national.com/; ComponentLink2Description: LP3470 Datasheet; ComponentLink2URL: http://www.national.com/ds/LP/LP3470.pdf; ComponentLink3Description: LP3470 Web Page; ComponentLink3URL: http://www.national.com/pf/LP/LP3470.html; ComponentLink4Description: MF05A Package Page; ComponentLink4URL: http://www.national.com/packaging/folders/mf05a.html
footprint MF05A_N (SOT23, 5-Leads, Body 2.9x1.6mm, Pitch 0.95mm, Lead Span 2.8mm, IPC Medium Density)
footprint MF05A_L (SOT23, 5-Leads, Body 2.9x1.6mm, Pitch 0.95mm, Lead Span 2.8mm, IPC High Density)
footprint MF05A_M (SOT23, 5-Leads, Body 2.9x1.6mm, Pitch 0.95mm, Lead Span 2.8mm, IPC Low Density)
pins: 1 SRT, 2 GND (power), 3 VCC1 (power), 4 VCC (power), 5 ~{RST} (oc)

## LP3470IM5-4.00/NOPB
designator U?
Tiny Power On Reset Circuit, 5-pin SOT-23, Pb-Free; PartNumber: LP3470IM5-4.00/NOPB; Manufacturer: National Semiconductor; PackageTopMarking: D29C*XTT; PowerWise: N; CompType: MiscPower; High-Reliability: Y; DatasheetVersion: Sep-2009; PackageVersion: revD, Aug-2008; PackageReference: MF05A; PackageDescription: Molded SOT-23, .115 x .063 x .040 in Body, 5 Lead, .0375 in Pitch; RoHS: Y; PinCount: 5; ComponentLink1Description: Manufacturer URL; ComponentLink1URL: http://www.national.com/; ComponentLink2Description: LP3470 Datasheet; ComponentLink2URL: http://www.national.com/ds/LP/LP3470.pdf; ComponentLink3Description: LP3470 Web Page; ComponentLink3URL: http://www.national.com/pf/LP/LP3470.html; ComponentLink4Description: MF05A Package Page; ComponentLink4URL: http://www.national.com/packaging/folders/mf05a.html
footprint MF05A_N (SOT23, 5-Leads, Body 2.9x1.6mm, Pitch 0.95mm, Lead Span 2.8mm, IPC Medium Density)
footprint MF05A_L (SOT23, 5-Leads, Body 2.9x1.6mm, Pitch 0.95mm, Lead Span 2.8mm, IPC High Density)
footprint MF05A_M (SOT23, 5-Leads, Body 2.9x1.6mm, Pitch 0.95mm, Lead Span 2.8mm, IPC Low Density)
pins: 1 SRT, 2 GND (power), 3 VCC1 (power), 4 VCC (power), 5 ~{RST} (oc)

## LP3470IM5-4.8
designator U?
Tiny Power On Reset Circuit, 5-pin SOT-23; PartNumber: LP3470IM5-4.8; Manufacturer: National Semiconductor; PackageTopMarking: D15C*XTT; PowerWise: N; CompType: MiscPower; High-Reliability: Y; DatasheetVersion: Sep-2009; PackageVersion: revD, Aug-2008; PackageReference: MF05A; PackageDescription: Molded SOT-23, .115 x .063 x .040 in Body, 5 Lead, .0375 in Pitch; RoHS: N; PinCount: 5; ComponentLink1Description: Manufacturer URL; ComponentLink1URL: http://www.national.com/; ComponentLink2Description: LP3470 Datasheet; ComponentLink2URL: http://www.national.com/ds/LP/LP3470.pdf; ComponentLink3Description: LP3470 Web Page; ComponentLink3URL: http://www.national.com/pf/LP/LP3470.html; ComponentLink4Description: MF05A Package Page; ComponentLink4URL: http://www.national.com/packaging/folders/mf05a.html
footprint MF05A_N (SOT23, 5-Leads, Body 2.9x1.6mm, Pitch 0.95mm, Lead Span 2.8mm, IPC Medium Density)
footprint MF05A_L (SOT23, 5-Leads, Body 2.9x1.6mm, Pitch 0.95mm, Lead Span 2.8mm, IPC High Density)
footprint MF05A_M (SOT23, 5-Leads, Body 2.9x1.6mm, Pitch 0.95mm, Lead Span 2.8mm, IPC Low Density)
pins: 1 SRT, 2 GND (power), 3 VCC1 (power), 4 VCC (power), 5 ~{RST} (oc)

## LP3470IM5-4.8/NOPB
designator U?
Tiny Power On Reset Circuit, 5-pin SOT-23, Pb-Free; PartNumber: LP3470IM5-4.8/NOPB; Manufacturer: National Semiconductor; PackageTopMarking: D15C*XTT; PowerWise: N; CompType: MiscPower; High-Reliability: Y; DatasheetVersion: Sep-2009; PackageVersion: revD, Aug-2008; PackageReference: MF05A; PackageDescription: Molded SOT-23, .115 x .063 x .040 in Body, 5 Lead, .0375 in Pitch; RoHS: Y; PinCount: 5; ComponentLink1Description: Manufacturer URL; ComponentLink1URL: http://www.national.com/; ComponentLink2Description: LP3470 Datasheet; ComponentLink2URL: http://www.national.com/ds/LP/LP3470.pdf; ComponentLink3Description: LP3470 Web Page; ComponentLink3URL: http://www.national.com/pf/LP/LP3470.html; ComponentLink4Description: MF05A Package Page; ComponentLink4URL: http://www.national.com/packaging/folders/mf05a.html
footprint MF05A_N (SOT23, 5-Leads, Body 2.9x1.6mm, Pitch 0.95mm, Lead Span 2.8mm, IPC Medium Density)
footprint MF05A_L (SOT23, 5-Leads, Body 2.9x1.6mm, Pitch 0.95mm, Lead Span 2.8mm, IPC High Density)
footprint MF05A_M (SOT23, 5-Leads, Body 2.9x1.6mm, Pitch 0.95mm, Lead Span 2.8mm, IPC Low Density)
pins: 1 SRT, 2 GND (power), 3 VCC1 (power), 4 VCC (power), 5 ~{RST} (oc)

## LP3470IM5-4.38
designator U?
Tiny Power On Reset Circuit, 5-pin SOT-23; PartNumber: LP3470IM5-4.38; Manufacturer: National Semiconductor; PackageTopMarking: D30C*XTT; PowerWise: N; CompType: MiscPower; High-Reliability: Y; DatasheetVersion: Sep-2009; PackageVersion: revD, Aug-2008; PackageReference: MF05A; PackageDescription: Molded SOT-23, .115 x .063 x .040 in Body, 5 Lead, .0375 in Pitch; RoHS: N; PinCount: 5; ComponentLink1Description: Manufacturer URL; ComponentLink1URL: http://www.national.com/; ComponentLink2Description: LP3470 Datasheet; ComponentLink2URL: http://www.national.com/ds/LP/LP3470.pdf; ComponentLink3Description: LP3470 Web Page; ComponentLink3URL: http://www.national.com/pf/LP/LP3470.html; ComponentLink4Description: MF05A Package Page; ComponentLink4URL: http://www.national.com/packaging/folders/mf05a.html
footprint MF05A_N (SOT23, 5-Leads, Body 2.9x1.6mm, Pitch 0.95mm, Lead Span 2.8mm, IPC Medium Density)
footprint MF05A_L (SOT23, 5-Leads, Body 2.9x1.6mm, Pitch 0.95mm, Lead Span 2.8mm, IPC High Density)
footprint MF05A_M (SOT23, 5-Leads, Body 2.9x1.6mm, Pitch 0.95mm, Lead Span 2.8mm, IPC Low Density)
pins: 1 SRT, 2 GND (power), 3 VCC1 (power), 4 VCC (power), 5 ~{RST} (oc)

## LP3470IM5-4.38/NOPB
designator U?
Tiny Power On Reset Circuit, 5-pin SOT-23, Pb-Free; PartNumber: LP3470IM5-4.38/NOPB; Manufacturer: National Semiconductor; PackageTopMarking: D30C*XTT; PowerWise: N; CompType: MiscPower; High-Reliability: Y; DatasheetVersion: Sep-2009; PackageVersion: revD, Aug-2008; PackageReference: MF05A; PackageDescription: Molded SOT-23, .115 x .063 x .040 in Body, 5 Lead, .0375 in Pitch; RoHS: Y; PinCount: 5; ComponentLink1Description: Manufacturer URL; ComponentLink1URL: http://www.national.com/; ComponentLink2Description: LP3470 Datasheet; ComponentLink2URL: http://www.national.com/ds/LP/LP3470.pdf; ComponentLink3Description: LP3470 Web Page; ComponentLink3URL: http://www.national.com/pf/LP/LP3470.html; ComponentLink4Description: MF05A Package Page; ComponentLink4URL: http://www.national.com/packaging/folders/mf05a.html
footprint MF05A_N (SOT23, 5-Leads, Body 2.9x1.6mm, Pitch 0.95mm, Lead Span 2.8mm, IPC Medium Density)
footprint MF05A_L (SOT23, 5-Leads, Body 2.9x1.6mm, Pitch 0.95mm, Lead Span 2.8mm, IPC High Density)
footprint MF05A_M (SOT23, 5-Leads, Body 2.9x1.6mm, Pitch 0.95mm, Lead Span 2.8mm, IPC Low Density)
pins: 1 SRT, 2 GND (power), 3 VCC1 (power), 4 VCC (power), 5 ~{RST} (oc)

## LP3470IM5-4.63
designator U?
Tiny Power On Reset Circuit, 5-pin SOT-23; PartNumber: LP3470IM5-4.63; Manufacturer: National Semiconductor; PackageTopMarking: D31C*XTT; PowerWise: N; CompType: MiscPower; High-Reliability: Y; DatasheetVersion: Sep-2009; PackageVersion: revD, Aug-2008; PackageReference: MF05A; PackageDescription: Molded SOT-23, .115 x .063 x .040 in Body, 5 Lead, .0375 in Pitch; RoHS: N; PinCount: 5; ComponentLink1Description: Manufacturer URL; ComponentLink1URL: http://www.national.com/; ComponentLink2Description: LP3470 Datasheet; ComponentLink2URL: http://www.national.com/ds/LP/LP3470.pdf; ComponentLink3Description: LP3470 Web Page; ComponentLink3URL: http://www.national.com/pf/LP/LP3470.html; ComponentLink4Description: MF05A Package Page; ComponentLink4URL: http://www.national.com/packaging/folders/mf05a.html
footprint MF05A_N (SOT23, 5-Leads, Body 2.9x1.6mm, Pitch 0.95mm, Lead Span 2.8mm, IPC Medium Density)
footprint MF05A_L (SOT23, 5-Leads, Body 2.9x1.6mm, Pitch 0.95mm, Lead Span 2.8mm, IPC High Density)
footprint MF05A_M (SOT23, 5-Leads, Body 2.9x1.6mm, Pitch 0.95mm, Lead Span 2.8mm, IPC Low Density)
pins: 1 SRT, 2 GND (power), 3 VCC1 (power), 4 VCC (power), 5 ~{RST} (oc)

## LP3470IM5-4.63/NOPB
designator U?
Tiny Power On Reset Circuit, 5-pin SOT-23, Pb-Free; PartNumber: LP3470IM5-4.63/NOPB; Manufacturer: National Semiconductor; PackageTopMarking: D31C*XTT; PowerWise: N; CompType: MiscPower; High-Reliability: Y; DatasheetVersion: Sep-2009; PackageVersion: revD, Aug-2008; PackageReference: MF05A; PackageDescription: Molded SOT-23, .115 x .063 x .040 in Body, 5 Lead, .0375 in Pitch; RoHS: Y; PinCount: 5; ComponentLink1Description: Manufacturer URL; ComponentLink1URL: http://www.national.com/; ComponentLink2Description: LP3470 Datasheet; ComponentLink2URL: http://www.national.com/ds/LP/LP3470.pdf; ComponentLink3Description: LP3470 Web Page; ComponentLink3URL: http://www.national.com/pf/LP/LP3470.html; ComponentLink4Description: MF05A Package Page; ComponentLink4URL: http://www.national.com/packaging/folders/mf05a.html
footprint MF05A_N (SOT23, 5-Leads, Body 2.9x1.6mm, Pitch 0.95mm, Lead Span 2.8mm, IPC Medium Density)
footprint MF05A_L (SOT23, 5-Leads, Body 2.9x1.6mm, Pitch 0.95mm, Lead Span 2.8mm, IPC High Density)
footprint MF05A_M (SOT23, 5-Leads, Body 2.9x1.6mm, Pitch 0.95mm, Lead Span 2.8mm, IPC Low Density)
pins: 1 SRT, 2 GND (power), 3 VCC1 (power), 4 VCC (power), 5 ~{RST} (oc)

## LP3470IM5X-2.63
designator U?
Tiny Power On Reset Circuit, 5-pin SOT-23; PartNumber: LP3470IM5X-2.63; Manufacturer: National Semiconductor; PackageTopMarking: D25C*XTT; PowerWise: N; CompType: MiscPower; High-Reliability: Y; DatasheetVersion: Sep-2009; PackageVersion: revD, Aug-2008; PackageReference: MF05A; PackageDescription: Molded SOT-23, .115 x .063 x .040 in Body, 5 Lead, .0375 in Pitch; RoHS: N; PinCount: 5; ComponentLink1Description: Manufacturer URL; ComponentLink1URL: http://www.national.com/; ComponentLink2Description: LP3470 Datasheet; ComponentLink2URL: http://www.national.com/ds/LP/LP3470.pdf; ComponentLink3Description: LP3470 Web Page; ComponentLink3URL: http://www.national.com/pf/LP/LP3470.html; ComponentLink4Description: MF05A Package Page; ComponentLink4URL: http://www.national.com/packaging/folders/mf05a.html
footprint MF05A_N (SOT23, 5-Leads, Body 2.9x1.6mm, Pitch 0.95mm, Lead Span 2.8mm, IPC Medium Density)
footprint MF05A_L (SOT23, 5-Leads, Body 2.9x1.6mm, Pitch 0.95mm, Lead Span 2.8mm, IPC High Density)
footprint MF05A_M (SOT23, 5-Leads, Body 2.9x1.6mm, Pitch 0.95mm, Lead Span 2.8mm, IPC Low Density)
pins: 1 SRT, 2 GND (power), 3 VCC1 (power), 4 VCC (power), 5 ~{RST} (oc)

## LP3470IM5X-2.83
designator U?
Tiny Power On Reset Circuit, 5-pin SOT-23; PartNumber: LP3470IM5X-2.83; Manufacturer: National Semiconductor; PackageTopMarking: D39C*XTT; PowerWise: N; CompType: MiscPower; High-Reliability: Y; DatasheetVersion: Sep-2009; PackageVersion: revD, Aug-2008; PackageReference: MF05A; PackageDescription: Molded SOT-23, .115 x .063 x .040 in Body, 5 Lead, .0375 in Pitch; RoHS: N; PinCount: 5; ComponentLink1Description: Manufacturer URL; ComponentLink1URL: http://www.national.com/; ComponentLink2Description: LP3470 Datasheet; ComponentLink2URL: http://www.national.com/ds/LP/LP3470.pdf; ComponentLink3Description: LP3470 Web Page; ComponentLink3URL: http://www.national.com/pf/LP/LP3470.html; ComponentLink4Description: MF05A Package Page; ComponentLink4URL: http://www.national.com/packaging/folders/mf05a.html
footprint MF05A_N (SOT23, 5-Leads, Body 2.9x1.6mm, Pitch 0.95mm, Lead Span 2.8mm, IPC Medium Density)
footprint MF05A_L (SOT23, 5-Leads, Body 2.9x1.6mm, Pitch 0.95mm, Lead Span 2.8mm, IPC High Density)
footprint MF05A_M (SOT23, 5-Leads, Body 2.9x1.6mm, Pitch 0.95mm, Lead Span 2.8mm, IPC Low Density)
pins: 1 SRT, 2 GND (power), 3 VCC1 (power), 4 VCC (power), 5 ~{RST} (oc)

## LP3470IM5X-2.93
designator U?
Tiny Power On Reset Circuit, 5-pin SOT-23; PartNumber: LP3470IM5X-2.93; Manufacturer: National Semiconductor; PackageTopMarking: D26C*XTT; PowerWise: N; CompType: MiscPower; High-Reliability: Y; DatasheetVersion: Sep-2009; PackageVersion: revD, Aug-2008; PackageReference: MF05A; PackageDescription: Molded SOT-23, .115 x .063 x .040 in Body, 5 Lead, .0375 in Pitch; RoHS: N; PinCount: 5; ComponentLink1Description: Manufacturer URL; ComponentLink1URL: http://www.national.com/; ComponentLink2Description: LP3470 Datasheet; ComponentLink2URL: http://www.national.com/ds/LP/LP3470.pdf; ComponentLink3Description: LP3470 Web Page; ComponentLink3URL: http://www.national.com/pf/LP/LP3470.html; ComponentLink4Description: MF05A Package Page; ComponentLink4URL: http://www.national.com/packaging/folders/mf05a.html
footprint MF05A_N (SOT23, 5-Leads, Body 2.9x1.6mm, Pitch 0.95mm, Lead Span 2.8mm, IPC Medium Density)
footprint MF05A_L (SOT23, 5-Leads, Body 2.9x1.6mm, Pitch 0.95mm, Lead Span 2.8mm, IPC High Density)
footprint MF05A_M (SOT23, 5-Leads, Body 2.9x1.6mm, Pitch 0.95mm, Lead Span 2.8mm, IPC Low Density)
pins: 1 SRT, 2 GND (power), 3 VCC1 (power), 4 VCC (power), 5 ~{RST} (oc)

## LP3470IM5X-3.08
designator U?
Tiny Power On Reset Circuit, 5-pin SOT-23; PartNumber: LP3470IM5X-3.08; Manufacturer: National Semiconductor; PackageTopMarking: D28C*XTT; PowerWise: N; CompType: MiscPower; High-Reliability: Y; DatasheetVersion: Sep-2009; PackageVersion: revD, Aug-2008; PackageReference: MF05A; PackageDescription: Molded SOT-23, .115 x .063 x .040 in Body, 5 Lead, .0375 in Pitch; RoHS: N; PinCount: 5; ComponentLink1Description: Manufacturer URL; ComponentLink1URL: http://www.national.com/; ComponentLink2Description: LP3470 Datasheet; ComponentLink2URL: http://www.national.com/ds/LP/LP3470.pdf; ComponentLink3Description: LP3470 Web Page; ComponentLink3URL: http://www.national.com/pf/LP/LP3470.html; ComponentLink4Description: MF05A Package Page; ComponentLink4URL: http://www.national.com/packaging/folders/mf05a.html
footprint MF05A_N (SOT23, 5-Leads, Body 2.9x1.6mm, Pitch 0.95mm, Lead Span 2.8mm, IPC Medium Density)
footprint MF05A_L (SOT23, 5-Leads, Body 2.9x1.6mm, Pitch 0.95mm, Lead Span 2.8mm, IPC High Density)
footprint MF05A_M (SOT23, 5-Leads, Body 2.9x1.6mm, Pitch 0.95mm, Lead Span 2.8mm, IPC Low Density)
pins: 1 SRT, 2 GND (power), 3 VCC1 (power), 4 VCC (power), 5 ~{RST} (oc)

## LP3470IM5X-4.00
designator U?
Tiny Power On Reset Circuit, 5-pin SOT-23; PartNumber: LP3470IM5X-4.00; Manufacturer: National Semiconductor; PackageTopMarking: D29C*XTT; PowerWise: N; CompType: MiscPower; High-Reliability: Y; DatasheetVersion: Sep-2009; PackageVersion: revD, Aug-2008; PackageReference: MF05A; PackageDescription: Molded SOT-23, .115 x .063 x .040 in Body, 5 Lead, .0375 in Pitch; RoHS: N; PinCount: 5; ComponentLink1Description: Manufacturer URL; ComponentLink1URL: http://www.national.com/; ComponentLink2Description: LP3470 Datasheet; ComponentLink2URL: http://www.national.com/ds/LP/LP3470.pdf; ComponentLink3Description: LP3470 Web Page; ComponentLink3URL: http://www.national.com/pf/LP/LP3470.html; ComponentLink4Description: MF05A Package Page; ComponentLink4URL: http://www.national.com/packaging/folders/mf05a.html
footprint MF05A_N (SOT23, 5-Leads, Body 2.9x1.6mm, Pitch 0.95mm, Lead Span 2.8mm, IPC Medium Density)
footprint MF05A_L (SOT23, 5-Leads, Body 2.9x1.6mm, Pitch 0.95mm, Lead Span 2.8mm, IPC High Density)
footprint MF05A_M (SOT23, 5-Leads, Body 2.9x1.6mm, Pitch 0.95mm, Lead Span 2.8mm, IPC Low Density)
pins: 1 SRT, 2 GND (power), 3 VCC1 (power), 4 VCC (power), 5 ~{RST} (oc)